# EAGLE library part DB25F/90 (library connect)
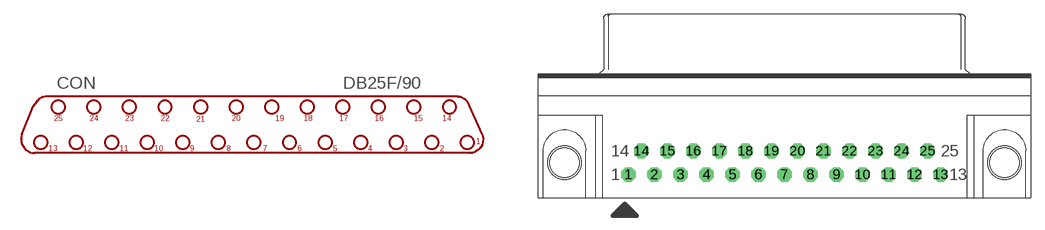
[diagram p10: symbol with the pads of D-25F/90; footprint D-25F/90]

Designator prefix CON

## DB25F/90  [D-25F/90]
1  1  pas
2  2  pas
3  3  pas
4  4  pas
5  5  pas
6  6  pas
7  7  pas
8  8  pas
9  9  pas
10  10  pas
11  11  pas
12  12  pas
13  13  pas
14  14  pas
15  15  pas
16  16  pas
17  17  pas
18  18  pas
19  19  pas
20  20  pas
21  21  pas
22  22  pas
23  23  pas
24  24  pas
25  25  pas

## Footprint D-25F/90 (pad centres in mm)
drill 1.016 pad 1.575 octagon: 1 -16.764,-1.27; 2 -13.97,-1.27; 3 -11.176,-1.27; 4 -8.382,-1.27; 5 -5.588,-1.27; 6 -2.794,-1.27; 7 0,-1.27; 8 2.794,-1.27; 9 5.588,-1.27; 10 8.382,-1.27; 11 11.176,-1.27; 12 13.97,-1.27; 13 16.764,-1.27; 14 -15.367,1.27; 15 -12.573,1.27; 16 -9.779,1.27; 17 -6.985,1.27; 18 -4.191,1.27; 19 -1.397,1.27; 20 1.397,1.27; 21 4.191,1.27; 22 6.985,1.27; 23 9.779,1.27; 24 12.573,1.27; 25 15.367,1.27
hole 3.2 at 23.622,0
hole 3.2 at -23.622,0